# EAGLE library part SBH41-NBPB-D13-SP (library con-sullins)
HEADER - Vertical, Shrouded
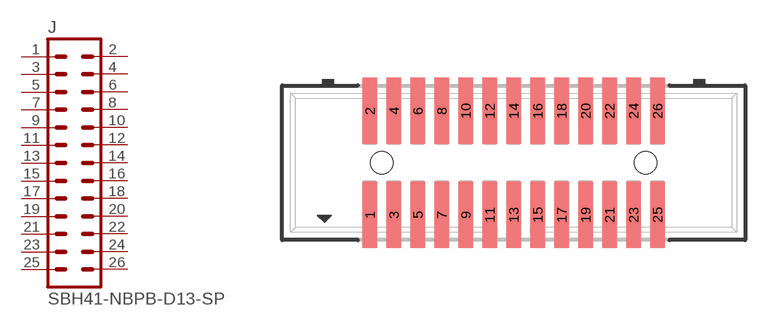
[diagram p50: symbol with the pads of SBH41-NBPB-D13-SP; footprint SBH41-NBPB-D13-SP]

Designator prefix J

## SBH41-NBPB-D13-SP  [SBH41-NBPB-D13-SP]
1  1  pas
2  2  pas
3  3  pas
4  4  pas
5  5  pas
6  6  pas
7  7  pas
8  8  pas
9  9  pas
10  10  pas
11  11  pas
12  12  pas
13  13  pas
14  14  pas
15  15  pas
16  16  pas
17  17  pas
18  18  pas
19  19  pas
20  20  pas
21  21  pas
22  22  pas
23  23  pas
24  24  pas
25  25  pas
26  26  pas

## Footprint SBH41-NBPB-D13-SP (pad centres in mm)
CONNECTOR HEADER 0.05" pitch
smd 0.762 x 3.505: 1 -7.62,-2.756; 2 -7.62,2.756; 3 -6.35,-2.756; 4 -6.35,2.756; 5 -5.08,-2.756; 6 -5.08,2.756; 7 -3.81,-2.756; 8 -3.81,2.756; 9 -2.54,-2.756; 10 -2.54,2.756; 11 -1.27,-2.756; 12 -1.27,2.756; 13 0,-2.756; 14 0,2.756; 15 1.27,-2.756; 16 1.27,2.756; 17 2.54,-2.756; 18 2.54,2.756; 19 3.81,-2.756; 20 3.81,2.756; 21 5.08,-2.756; 22 5.08,2.756; 23 6.35,-2.756; 24 6.35,2.756; 25 7.62,-2.756; 26 7.62,2.756
hole 1.194 at -6.985,0
hole 1.194 at 6.985,0